# EAGLE library part 5-106505-2 (library 5-106505-2)
Body Features: Primary Product Color Black | Shell Plating Material Tin | Connector Profile Standard | Configuration Features: PCB Mount Orientation Right Angle | Number of Positions 9 | Number of Rows 2 | Contact Features: Contact Mating Area Plating Material Gold | Contact Mating Area Plating Material Thickness .76 MICM | Contact Shape & Form Round | Contact Mating Area Plating Material Gold Flash over Palladium Nickel | Contact Current Rating (Max) 6 AMP | Contact Base Material Phosphor Bronze | PCB Cont Source: Datasheet <https://www.te.com/commerce/DocumentDelivery/DDEController?Action=srchrtrv&DocNm=82068_AMPLIMITE_Right-Angle_Posted_Conn&DocType=Catalog Section&DocLang=English&PartCntxt=5-106505-2&DocFormat=pdf>
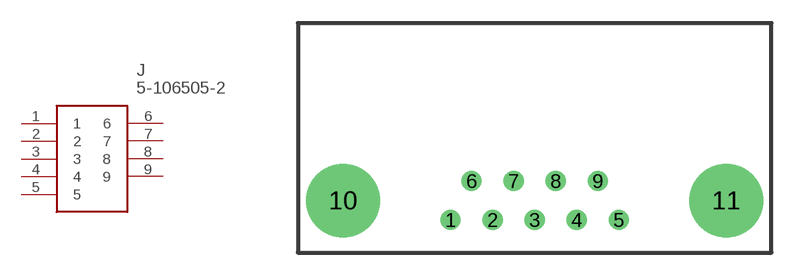
[diagram p0: symbol with the pads of 5-106505-2_3; footprint 5-106505-2_3]

Designator prefix J

## 5-106505-2 (Description: Body Features: Primary Product Color Black | Shell Plating Material Tin | Connector Profile Standard | Configuration Features: PCB Mount Orientation Right Angle | Number of Positions 9 | Number of Rows 2 | Contact Features: Contact Mating Area Plating Material Gold | Contact Mating Area Plating Material Thickness .76 MICM | Contact Shape & Form Round | Contact Mating Area Plating Material Gold Flash over Palladium Nickel | Contact Current Rating (Max) 6 AMP | Contact Base Material Phosphor Bronze | PCB Cont; Height: mm; Manufacturer_Name: TE Connectivity; Manufacturer_Part_Number: 5-106505-2; Mouser_Part_Number: 571-5-106505-2; Mouser_Price-Stock: https://www.mouser.co.uk/ProductDetail/TE-Connectivity/5-106505-2?qs=MQMItlSumdeqtmm5RcerVg%3D%3D)  [5-106505-2_3]
1  1
2  2
3  3
4  4
5  5
6  6
7  7
8  8
9  9

## Footprint 5-106505-2_3 (pad centres in mm)
5-106505-2_3
drill 0.8 pad 1.3: 1 9.97,-12.87; 2 12.71,-12.87; 3 15.45,-12.87; 4 18.19,-12.87; 5 20.93,-12.87; 6 11.34,-10.33; 7 14.08,-10.33; 8 16.82,-10.33; 9 19.56,-10.33
drill 3.2 pad 4.8: 10 2.95,-11.6; 11 27.95,-11.6